# EAGLE library part DP3T-PCB-WEALTH (library mosaic modular system)
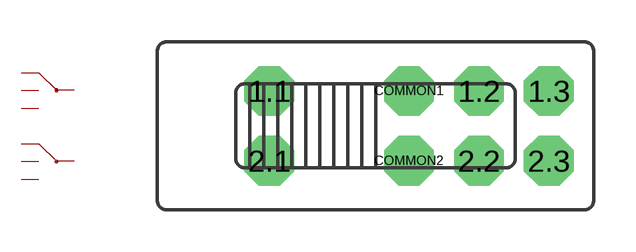
[diagram p0: symbol with the pads of DP3T-PCB-WEALTH; footprint DP3T-PCB-WEALTH]

Designator prefix -; gates 1=SP3T 2=SP3T

## DP3T-PCB-WEALTH  [DP3T-PCB-WEALTH]
1.1  1:1
1.2  1:2
1.3  1:3
2.1  2:1
2.2  2:2
2.3  2:3
COMMON1  1:C
COMMON2  2:C

## Footprint DP3T-PCB-WEALTH (pad centres in mm)
drill 0.813 pad 1.778 octagon: 1.1 -3.8,1.25; 1.2 3.7,1.25; 1.3 6.2,1.25; 2.1 -3.8,-1.25; 2.2 3.7,-1.25; 2.3 6.2,-1.25; COMMON1 1.2,1.25; COMMON2 1.2,-1.25